# Altium integrated library 2号库.IntLib: 36 symbols
Pins are listed as number, name and electrical type; pins without a type are passive.

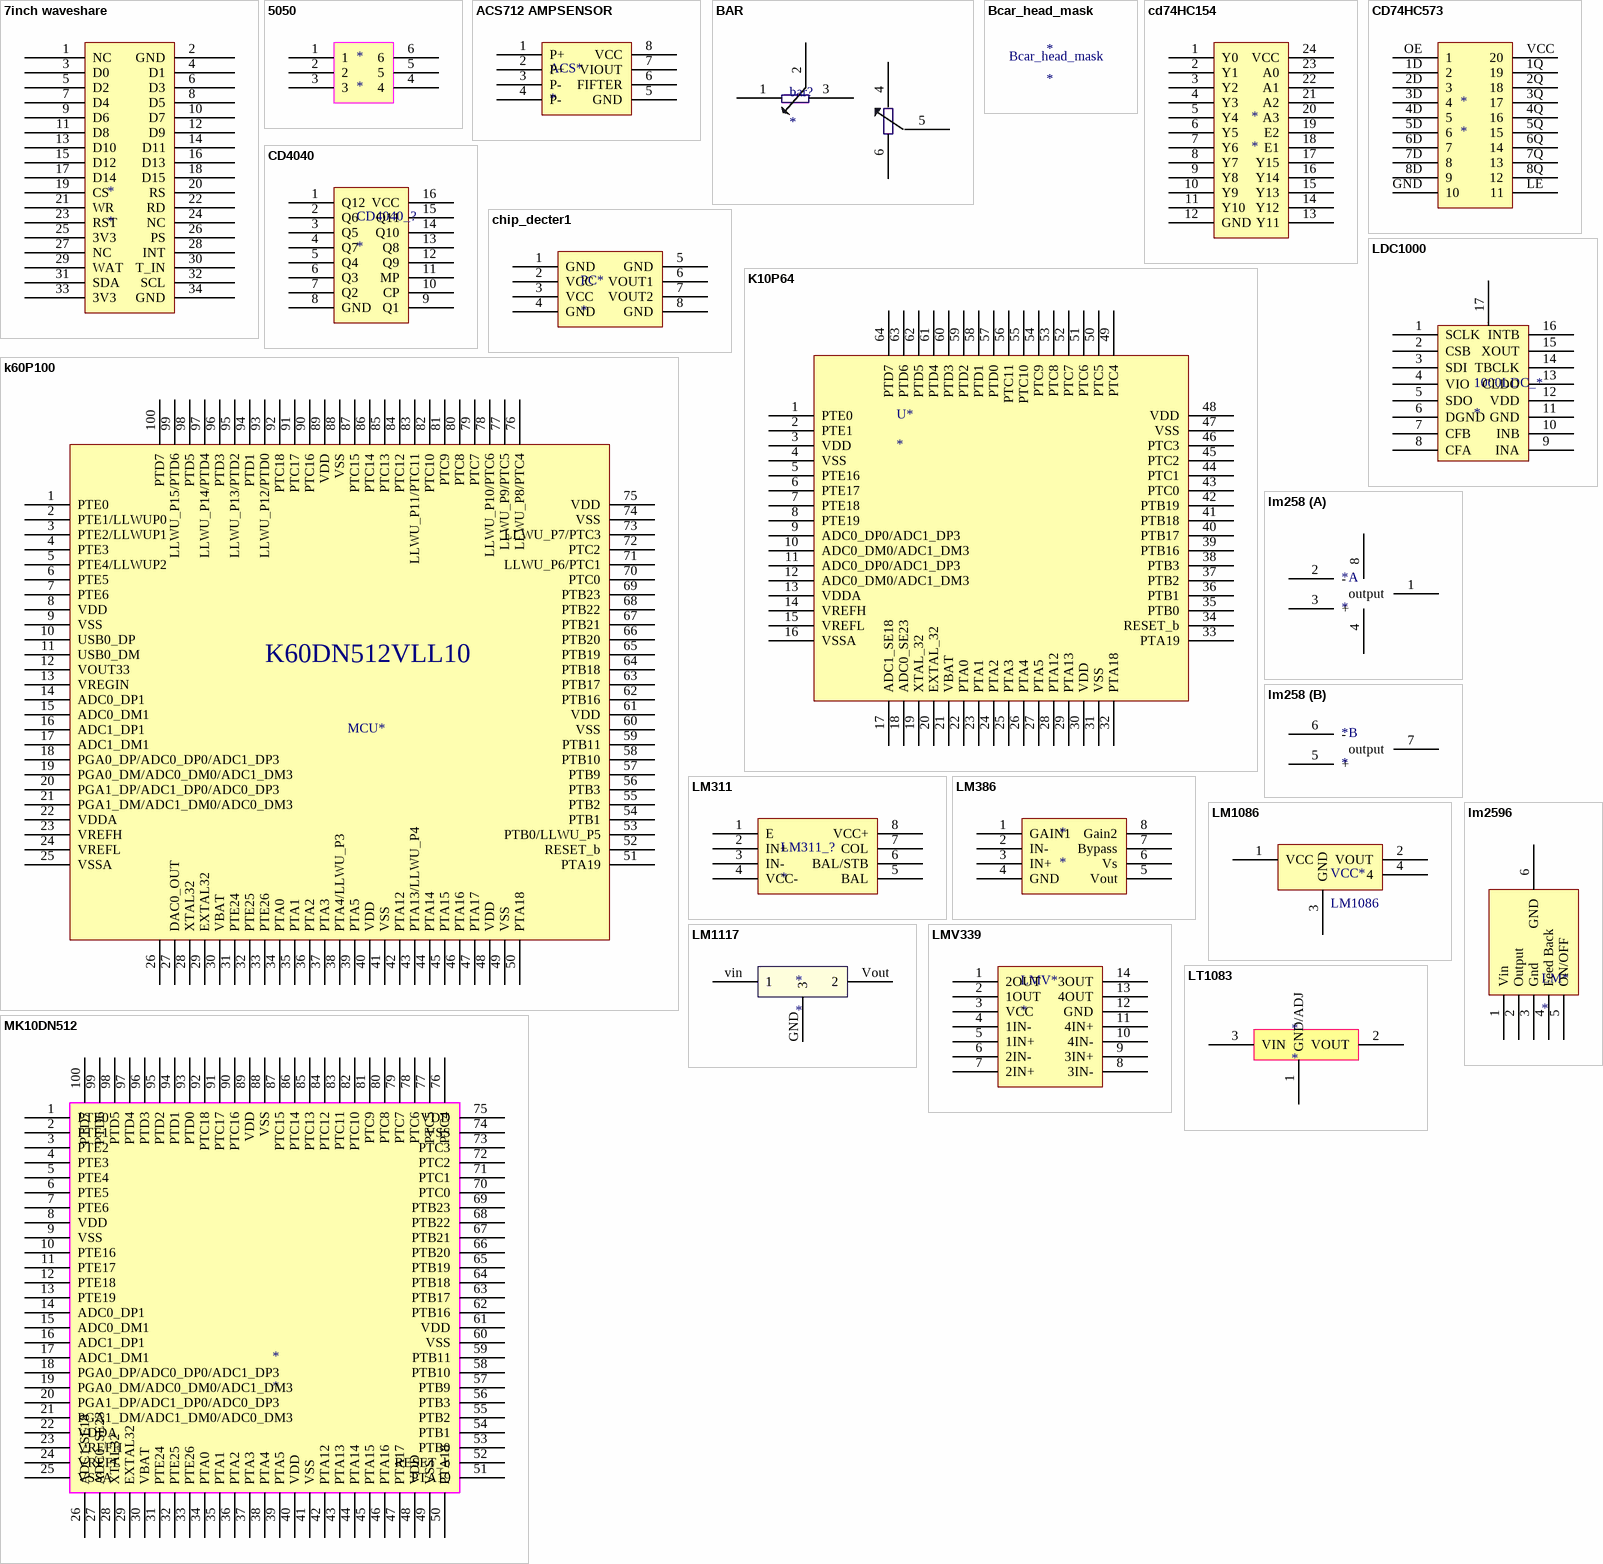
[diagram p0: symbols 7inch waveshare to MK10DN512]

## 7inch waveshare
designator *
footprint 7 inch waveshare
pins: 1 NC, 2 GND, 3 D0, 4 D1, 5 D2, 6 D3, 7 D4, 8 D5, 9 D6, 10 D7, 11 D8, 12 D9, 13 D10, 14 D11, 15 D12, 16 D13, 17 D14, 18 D15, 19 CS, 20 RS, 21 WR, 22 RD, 23 RST, 24 NC, 25 3V3 (power), 26 PS, 27 NC, 28 INT, 29 WAT, 30 T_IN, 31 SDA, 32 SCL, 33 3V3 (power), 34 GND

## 5050
designator *
footprint 5050
pins: 1, 2, 3, 4, 5, 6

## ACS712 AMPSENSOR
designator ACS*
footprint SOIC1-8N ACS712
pins: 1 P+, 2 P+, 3 P-, 4 P-, 5 GND, 6 FIFTER, 7 VIOUT, 8 VCC

## BAR
designator bar?
footprint bar
pins: 1, 2, 3, 4, 5, 6

## Bcar_head_mask
designator *
footprint Bcar_head_mask

## cd74HC154
designator *
footprint cd74hc154
pins: 1 Y0, 2 Y1, 3 Y2, 4 Y3, 5 Y4, 6 Y5, 7 Y6, 8 Y7, 9 Y8, 10 Y9, 11 Y10, 12 GND, 13 Y11, 14 Y12, 15 Y13, 16 Y14, 17 Y15, 18 E1, 19 E2, 20 A3, 21 A2, 22 A1, 23 A0, 24 VCC

## CD74HC573
designator *
footprint cd74hc573; pin to pad 1D>2 1Q>19 2D>3 2Q>18 3D>4 3Q>17 4D>5 4Q>16 5D>6 5Q>15 6D>7 6Q>14 7D>8 7Q>13 8D>9 8Q>12 GND>10 LE>11 OE>1 VCC>20
pins: 1D 2, 1Q 19, 2D 3, 2Q 18, 3D 4, 3Q 17, 4D 5, 4Q 16, 5D 6, 5Q 15, 6D 7, 6Q 14, 7D 8, 7Q 13, 8D 9, 8Q 12, GND 10, LE 11, OE 1, VCC 20

## CD4040
designator CD4040_?
footprint SOIC-16
pins: 1 Q12, 2 Q6, 3 Q5, 4 Q7, 5 Q4, 6 Q3, 7 Q2, 8 GND, 9 Q1, 10 CP, 11 MP, 12 Q9, 13 Q8, 14 Q10, 15 Q11, 16 VCC

## chip_decter1
designator PC*
chips
footprint chip_detecter
pins: 1 GND, 2 VCC, 3 VCC, 4 GND, 5 GND, 6 VOUT1, 7 VOUT2, 8 GND

## K10P64
designator U*
MCU
footprint K10P64M72 LQFP (TSQFP, 64-Leads, K10P64M72)
pins: 1 PTE0, 2 PTE1, 3 VDD, 4 VSS, 5 PTE16, 6 PTE17, 7 PTE18, 8 PTE19, 9 ADC0_DP0/ADC1_DP3, 10 ADC0_DM0/ADC1_DM3, 11 ADC0_DP0/ADC1_DP3, 12 ADC0_DM0/ADC1_DM3, 13 VDDA, 14 VREFH, 15 VREFL, 16 VSSA, 17 ADC1_SE18, 18 ADC0_SE23, 19 XTAL_32, 20 EXTAL_32, 21 VBAT, 22 PTA0, 23 PTA1, 24 PTA2, 25 PTA3, 26 PTA4, 27 PTA5, 28 PTA12, 29 PTA13, 30 VDD, 31 VSS, 32 PTA18, 33 PTA19, 34 RESET_b, 35 PTB0, 36 PTB1, 37 PTB2, 38 PTB3, 39 PTB16, 40 PTB17, 41 PTB18, 42 PTB19, 43 PTC0, 44 PTC1, 45 PTC2, 46 PTC3, 47 VSS, 48 VDD, 49 PTC4, 50 PTC5, 51 PTC6, 52 PTC7, 53 PTC8, 54 PTC9, 55 PTC10, 56 PTC11, 57 PTD0, 58 PTD1, 59 PTD2, 60 PTD3, 61 PTD4, 62 PTD5, 63 PTD6, 64 PTD7

## k60P100
designator MCU*  (value not drawn)
footprint LQFP100 (SQFP, 100-Leads, Body 14.00x14.00mm, Pitch 0.50mm, IPC Medium Density)
pins: 1 PTE0, 2 PTE1/LLWUP0, 3 PTE2/LLWUP1, 4 PTE3, 5 PTE4/LLWUP2, 6 PTE5, 7 PTE6, 8 VDD, 9 VSS, 10 USB0_DP, 11 USB0_DM, 12 VOUT33, 13 VREGIN, 14 ADC0_DP1, 15 ADC0_DM1, 16 ADC1_DP1, 17 ADC1_DM1, 18 PGA0_DP/ADC0_DP0/ADC1_DP3, 19 PGA0_DM/ADC0_DM0/ADC1_DM3, 20 PGA1_DP/ADC1_DP0/ADC0_DP3, 21 PGA1_DM/ADC1_DM0/ADC0_DM3, 22 VDDA, 23 VREFH, 24 VREFL, 25 VSSA, 26 VREF_OUT/CMP1_IN5CMP0_IN5/ADC1_SE18, 27 DAC0_OUT, 28 XTAL32, 29 EXTAL32, 30 VBAT, 31 PTE24, 32 PTE25, 33 PTE26, 34 PTA0, 35 PTA1, 36 PTA2, 37 PTA3, 38 PTA4/LLWU_P3, 39 PTA5, 40 VDD, 41 VSS, 42 PTA12, 43 PTA13/LLWU_P4, 44 PTA14, 45 PTA15, 46 PTA16, 47 PTA17, 48 VDD, 49 VSS, 50 PTA18, 51 PTA19, 52 RESET_b, 53 PTB0/LLWU_P5, 54 PTB1, 55 PTB2, 56 PTB3, 57 PTB9, 58 PTB10, 59 PTB11, 60 VSS, 61 VDD, 62 PTB16, 63 PTB17, 64 PTB18, 65 PTB19, 66 PTB20, 67 PTB21, 68 PTB22, 69 PTB23, 70 PTC0, 71 LLWU_P6/PTC1, 72 PTC2, 73 LLWU_P7/PTC3, 74 VSS, 75 VDD, 76 LLWU_P8/PTC4, 77 LLWU_P9/PTC5, 78 LLWU_P10/PTC6, 79 PTC7, 80 PTC8, 81 PTC9, 82 PTC10, 83 LLWU_P11/PTC11, 84 PTC12, 85 PTC13, 86 PTC14, 87 PTC15, 88 VSS, 89 VDD, 90 PTC16, 91 PTC17, 92 PTC18, 93 LLWU_P12/PTD0, 94 PTD1, 95 LLWU_P13/PTD2, 96 PTD3, 97 LLWU_P14/PTD4, 98 PTD5, 99 LLWU_P15/PTD6, 100 PTD7
text: K60DN512VLL10

## LDC1000
designator 1000LDC_*
footprint LDC1000 (QFN, 16-Leads, Body 5.00x4.00mm, Pitch 0.50mm/0.00mm, Thermal Pad 3.75x0.00mm, IPC Medium Density)
pins: 1 SCLK, 2 CSB, 3 SDI, 4 VIO, 5 SDO, 6 DGND, 7 CFB, 8 CFA, 9 INA, 10 INB, 11 GND, 12 VDD, 13 CLDO, 14 TBCLK, 15 XOUT, 16 INTB, 17 GND

## lm258
designator *
footprint SOP65P530X265-8N (SOP, 8-Leads, Body 3.00x3.20mm, Pitch 0.65mm, IPC Medium Density)
part A pins: 1 output, 2 -, 3 +, 4 GND, 8 VCC
part B pins: 5 +, 6 -, 7 output

## LM311
designator LM311_?
footprint SOIC1-8N ACS712
pins: 1 E, 2 IN+, 3 IN-, 4 VCC-, 5 BAL, 6 BAL/STB, 7 COL, 8 VCC+

## LM386
designator *
footprint SOIC lm386 (SOIC, 8-Leads, Body 4.90x3.90mm, Pitch 1.27mm, IPC Medium Density)
footprint sop lm386 (TSOP, 8-Leads, Body 3.00x3.00mm, Pitch 0.65mm, IPC Medium Density)
pins: 1 GAIN1, 2 IN-, 3 IN+, 4 GND, 5 Vout, 6 Vs, 7 Bypass, 8 Gain2

## LM1086
designator VCC*
footprint DPAK LM2940 (D2-PAK, 4-Pads, Body 7.93x8.69mm (max), IPC Medium Density); pin to pad 1>3 3>1
pins: 1 VCC, 2 VOUT, 3 GND, 4

## LM1117
designator *
footprint lm1117; pin to pad GND>3 vin>1 Vout>2
pins: GND 3, vin 1, Vout 2

## lm2596
designator LM*
footprint lm2596
pins: 1 Vin, 2 Output, 3 Gnd, 4 Feed Back, 5 ON/OFF, 6 GND

## LMV339
designator LMV*
footprint LMV339 TSSOP14 (TSOP, 14-Leads, Body 5.00x4.40mm, Pitch 0.65mm, IPC Medium Density)
footprint SOIC LMV339
pins: 1 2OUT, 2 1OUT, 3 VCC, 4 1IN-, 5 1IN+, 6 2IN-, 7 2IN+, 8 3IN-, 9 3IN+, 10 4IN-, 11 4IN+, 12 GND, 13 4OUT, 14 3OUT

## LT1083
designator *
footprint LT1083
pins: 1 GND/ADJ, 2 VOUT, 3 VIN

## MK10DN512
designator *
footprint MK10DN512VL10(DIP)
footprint MK60DN512LV110
pins: 1 PTE0, 2 PTE1, 3 PTE2, 4 PTE3, 5 PTE4, 6 PTE5, 7 PTE6, 8 VDD, 9 VSS, 10 PTE16, 11 PTE17, 12 PTE18, 13 PTE19, 14 ADC0_DP1, 15 ADC0_DM1, 16 ADC1_DP1, 17 ADC1_DM1, 18 PGA0_DP/ADC0_DP0/ADC1_DP3, 19 PGA0_DM/ADC0_DM0/ADC1_DM3, 20 PGA1_DP/ADC1_DP0/ADC0_DP3, 21 PGA1_DM/ADC1_DM0/ADC0_DM3, 22 VDDA, 23 VREFH, 24 VREFL, 25 VSSA, 26 ADC1-SE18, 27 ADC0_SE23, 28 XTAL32, 29 EXTAL32, 30 VBAT, 31 PTE24, 32 PTE25, 33 PTE26, 34 PTA0, 35 PTA1, 36 PTA2, 37 PTA3, 38 PTA4, 39 PTA5, 40 VDD, 41 VSS, 42 PTA12, 43 PTA13, 44 PTA14, 45 PTA15, 46 PTA16, 47 PTA17, 48 VDD, 49 VSS, 50 PTA18, 51 PTA19, 52 RESET_b, 53 PTB0, 54 PTB1, 55 PTB2, 56 PTB3, 57 PTB9, 58 PTB10, 59 PTB11, 60 VSS, 61 VDD, 62 PTB16, 63 PTB17, 64 PTB18, 65 PTB19, 66 PTB20, 67 PTB21, 68 PTB22, 69 PTB23, 70 PTC0, 71 PTC1, 72 PTC2, 73 PTC3, 74 VSS, 75 VDD, 76 PTC4, 77 PTC5, 78 PTC6, 79 PTC7, 80 PTC8, 81 PTC9, 82 PTC10, 83 PTC11, 84 PTC12, 85 PTC13, 86 PTC14, 87 PTC15, 88 VSS, 89 VDD, 90 PTC16, 91 PTC17, 92 PTC18, 93 PTD0, 94 PTD1, 95 PTD2, 96 PTD3, 97 PTD4, 98 PTD5, 99 PTD6, 100 PTD7

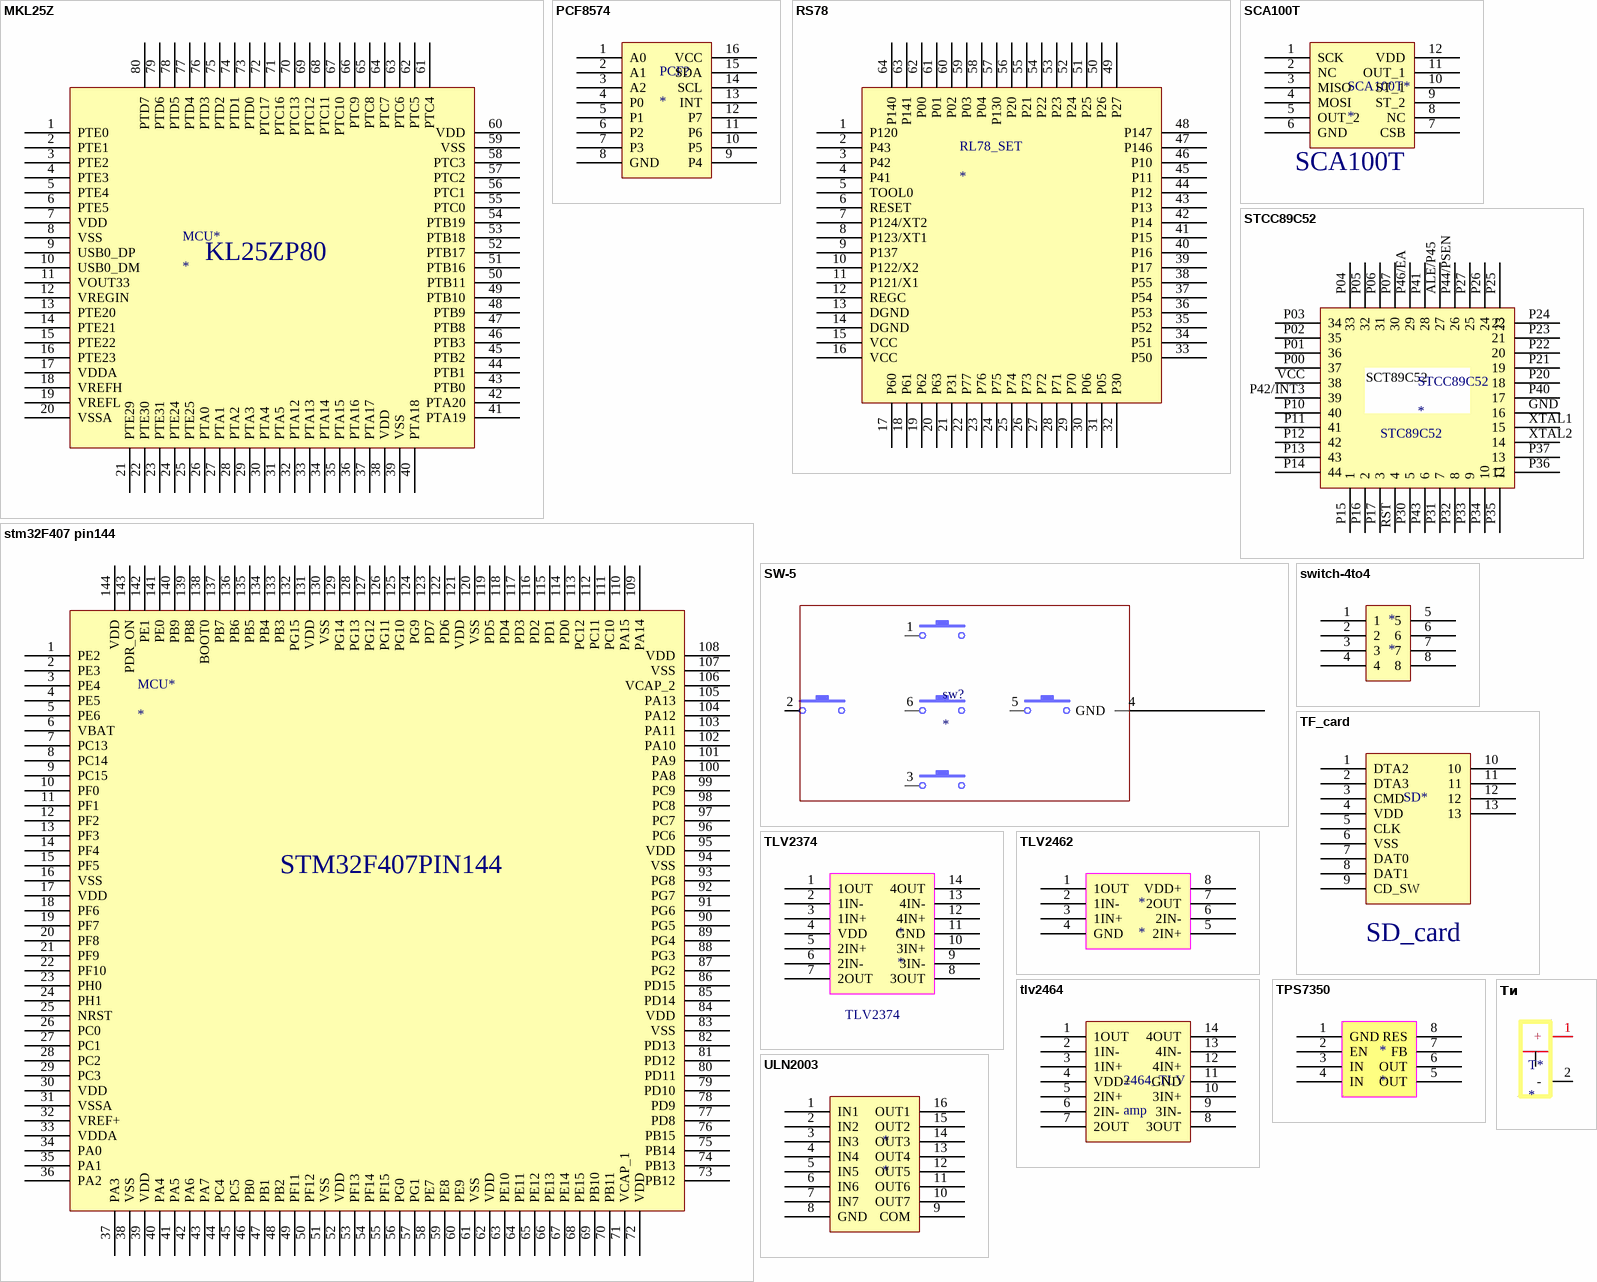
[diagram p1: symbols MKL25Z to ULN2003]

## MKL25Z
designator MCU*
footprint KL25ZP80
pins: 1 PTE0, 2 PTE1, 3 PTE2, 4 PTE3, 5 PTE4, 6 PTE5, 7 VDD, 8 VSS, 9 USB0_DP, 10 USB0_DM, 11 VOUT33, 12 VREGIN, 13 PTE20, 14 PTE21, 15 PTE22, 16 PTE23, 17 VDDA, 18 VREFH, 19 VREFL, 20 VSSA, 21 PTE29, 22 PTE30, 23 PTE31, 24 PTE24, 25 PTE25, 26 PTA0, 27 PTA1, 28 PTA2, 29 PTA3, 30 PTA4, 31 PTA5, 32 PTA12, 33 PTA13, 34 PTA14, 35 PTA15, 36 PTA16, 37 PTA17, 38 VDD, 39 VSS, 40 PTA18, 41 PTA19, 42 PTA20, 43 PTB0, 44 PTB1, 45 PTB2, 46 PTB3, 47 PTB8, 48 PTB9, 49 PTB10, 50 PTB11, 51 PTB16, 52 PTB17, 53 PTB18, 54 PTB19, 55 PTC0, 56 PTC1, 57 PTC2, 58 PTC3, 59 VSS, 60 VDD, 61 PTC4, 62 PTC5, 63 PTC6, 64 PTC7, 65 PTC8, 66 PTC9, 67 PTC10, 68 PTC11, 69 PTC12, 70 PTC13, 71 PTC16, 72 PTC17, 73 PTD0, 74 PTD1, 75 PTD2, 76 PTD3, 77 PTD4, 78 PTD5, 79 PTD6, 80 PTD7
text: KL25ZP80

## PCF8574
designator PCF?
footprint PCF8574
pins: 1 A0, 2 A1, 3 A2, 4 P0, 5 P1, 6 P2, 7 P3, 8 GND, 9 P4, 10 P5, 11 P6, 12 P7, 13 INT, 14 SCL, 15 SDA, 16 VCC

## RS78
designator RL78_SET
footprint RL78_转接版
pins: 1 P120, 2 P43, 3 P42, 4 P41, 5 TOOL0, 6 RESET, 7 P124/XT2, 8 P123/XT1, 9 P137, 10 P122/X2, 11 P121/X1, 12 REGC, 13 DGND, 14 DGND, 15 VCC, 16 VCC, 17 P60, 18 P61, 19 P62, 20 P63, 21 P31, 22 P77, 23 P76, 24 P75, 25 P74, 26 P73, 27 P72, 28 P71, 29 P70, 30 P06, 31 P05, 32 P30, 33 P50, 34 P51, 35 P52, 36 P53, 37 P54, 38 P55, 39 P17, 40 P16, 41 P15, 42 P14, 43 P13, 44 P12, 45 P11, 46 P10, 47 P146, 48 P147, 49 P27, 50 P26, 51 P25, 52 P24, 53 P23, 54 P22, 55 P21, 56 P20, 57 P130, 58 P04, 59 P03, 60 P02, 61 P01, 62 P00, 63 P141, 64 P140

## SCA100T
designator SCA100T*
footprint SCA100T
pins: 1 SCK, 2 NC, 3 MISO, 4 MOSI, 5 OUT_2, 6 GND, 7 CSB, 8 NC, 9 ST_2, 10 ST_1, 11 OUT_1, 12 VDD

## STCC89C52
designator STCC89C52
footprint 89c52（2）; pin to pad ALE/P45>27 GND>16 P00>37 P01>36 P02>35 P03>34 P04>33 P05>32 P06>31 P07>30 P10>40 P11>41 P12>42 P13>43 P14>44 P15>1 P16>2 P17>3 P20>18 P21>19 P22>20 P23>21 P24>22 P25>23 P26>24 P27>25 P30>5 P31>7 P32>8 P33>9 P34>10 P35>11 P36>12 P37>13 P40>17 P41>28 P42/INT3>39 P43>6 P44/PSEN>26 P46/EA>29 RST>4 VCC>38 XTAL1>15 XTAL2>14
footprint stc89c52; pin to pad ALE/P45>27 GND>16 P00>37 P01>36 P02>35 P03>34 P04>33 P05>32 P06>31 P07>30 P10>40 P11>41 P12>42 P13>43 P14>44 P15>1 P16>2 P17>3 P20>18 P21>19 P22>20 P23>21 P24>22 P25>23 P26>24 P27>25 P30>5 P31>7 P32>8 P33>9 P34>10 P35>11 P36>12 P37>13 P40>17 P41>28 P42/INT3>39 P43>6 P44/PSEN>26 P46/EA>29 RST>4 VCC>38 XTAL1>15 XTAL2>14
pins: ALE/P45 27, GND 16, P00 37, P01 36, P02 35, P03 34, P04 33, P05 32, P06 31, P07 30, P10 40, P11 41, P12 42, P13 43, P14 44, P15 1, P16 2, P17 3, P20 18, P21 19, P22 20, P23 21, P24 22, P25 23, P26 24, P27 25, P30 5, P31 7, P32 8, P33 9, P34 10, P35 11, P36 12, P37 13, P40 17, P41 28, P42/INT3 39, P43 6, P44/PSEN 26, P46/EA 29, RST 4, VCC 38, XTAL1 15, XTAL2 14
text: SCT89C52 /; STC89C52

## stm32F407 pin144
designator MCU*
footprint TSQFP50P2200X2200X160-144N (TSQFP, 144-Leads, Body 20.00x20.00mm, Pitch 0.50mm, IPC Medium Density)
pins: 1 PE2, 2 PE3, 3 PE4, 4 PE5, 5 PE6, 6 VBAT, 7 PC13, 8 PC14, 9 PC15, 10 PF0, 11 PF1, 12 PF2, 13 PF3, 14 PF4, 15 PF5, 16 VSS, 17 VDD, 18 PF6, 19 PF7, 20 PF8, 21 PF9, 22 PF10, 23 PH0, 24 PH1, 25 NRST, 26 PC0, 27 PC1, 28 PC2, 29 PC3, 30 VDD, 31 VSSA, 32 VREF+, 33 VDDA, 34 PA0, 35 PA1, 36 PA2, 37 PA3, 38 VSS, 39 VDD, 40 PA4, 41 PA5, 42 PA6, 43 PA7, 44 PC4, 45 PC5, 46 PB0, 47 PB1, 48 PB2, 49 PF11, 50 PF12, 51 VSS, 52 VDD, 53 PF13, 54 PF14, 55 PF15, 56 PG0, 57 PG1, 58 PE7, 59 PE8, 60 PE9, 61 VSS, 62 VDD, 63 PE10, 64 PE11, 65 PE12, 66 PE13, 67 PE14, 68 PE15, 69 PB10, 70 PB11, 71 VCAP_1, 72 VDD, 73 PB12, 74 PB13, 75 PB14, 76 PB15, 77 PD8, 78 PD9, 79 PD10, 80 PD11, 81 PD12, 82 PD13, 83 VSS, 84 VDD, 85 PD14, 86 PD15, 87 PG2, 88 PG3, 89 PG4, 90 PG5, 91 PG6, 92 PG7, 93 PG8, 94 VSS, 95 VDD, 96 PC6, 97 PC7, 98 PC8, 99 PC9, 100 PA8, 101 PA9, 102 PA10, 103 PA11, 104 PA12, 105 PA13, 106 VCAP_2, 107 VSS, 108 VDD, 109 PA14, 110 PA15, 111 PC10, 112 PC11, 113 PC12, 114 PD0, 115 PD1, 116 PD2, 117 PD3, 118 PD4, 119 PD5, 120 VSS, 121 VDD, 122 PD6, 123 PD7, 124 PG9, 125 PG10, 126 PG11, 127 PG12, 128 PG13, 129 PG14, 130 VSS, 131 VDD, 132 PG15, 133 PB3, 134 PB4, 135 PB5, 136 PB6, 137 PB7, 138 BOOT0, 139 PB8, 140 PB9, 141 PE0, 142 PE1, 143 PDR_ON, 144 VDD
text: STM32F407PIN144

## SW-5
designator sw?
footprint SW-5
pins: 1, 2, 3, 4 GND, 5, 6

## switch-4to4
designator *
footprint switch_4to4
pins: 1, 2, 3, 4, 5, 6, 7, 8

## TF_card
designator SD*  (value not drawn)
footprint SD_card
pins: 1 DTA2, 2 DTA3, 3 CMD, 4 VDD, 5 CLK, 6 VSS, 7 DAT0, 8 DAT1, 9 CD_SW, 10, 11, 12, 13
text: SD_card

## TLV2374
designator *
footprint TLV2374
pins: 1 1OUT, 2 1IN-, 3 1IN+, 4 VDD, 5 2IN+, 6 2IN-, 7 2OUT, 8 3OUT, 9 3IN-, 10 3IN+, 11 GND, 12 4IN+, 13 4IN-, 14 4OUT

## TLV2462
designator *
footprint TLV2462
pins: 1 1OUT, 2 1IN-, 3 1IN+, 4 GND, 5 2IN+, 6 2IN-, 7 2OUT, 8 VDD+

## tlv2464
designator 2464_TLV, comment amp
4amp
footprint SOIC127P600-8N
pins: 1 1OUT, 2 1IN-, 3 1IN+, 4 VDD+, 5 2IN+, 6 2IN-, 7 2OUT, 8 3OUT, 9 3IN-, 10 3IN+, 11 GND, 12 4IN+, 13 4IN-, 14 4OUT

## TPS7350
designator *
pins: 1 GND, 2 EN, 3 IN, 4 IN, 5 OUT, 6 OUT, 7 FB, 8 RES

## Tͷ
designator T*
footprint T插
pins: 1 + (power), 2 -

## ULN2003
designator *
footprint uln2003V12 (SOIC, 16-Leads, Body 9.90x3.90mm, Pitch 1.27mm, IPC Medium Density)
pins: 1 IN1, 2 IN2, 3 IN3, 4 IN4, 5 IN5, 6 IN6, 7 IN7, 8 GND, 9 COM, 10 OUT7, 11 OUT6, 12 OUT5, 13 OUT4, 14 OUT3, 15 OUT2, 16 OUT1